# EAGLE library part QUECTEL_L20 (library gps-gsm)
Quectel L20 module by Jozsef Kovacs, RobotSzoft Kft
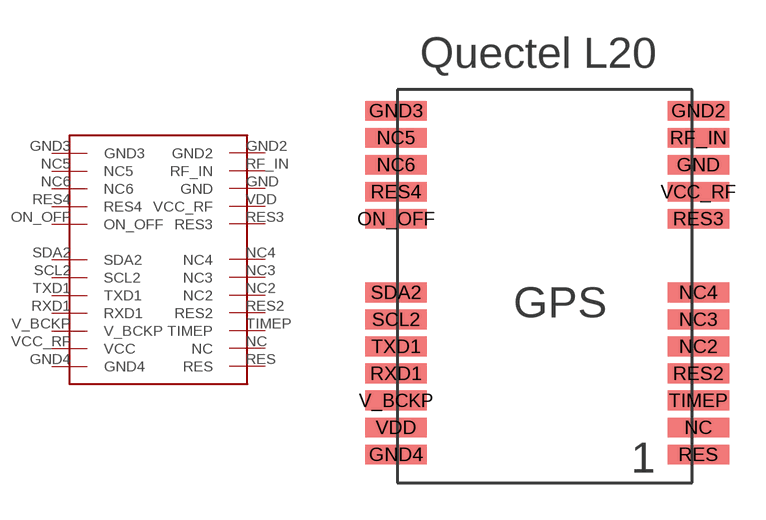
[diagram p16: symbol with the pads of QUECTEL_L20; footprint QUECTEL_L20]

Designator prefix -

## QUECTEL_L20  [QUECTEL_L20]
GND  GND
GND2  GND2
GND3  GND3
GND4  GND4
NC  NC
NC2  NC2
NC3  NC3
NC4  NC4
NC5  NC5
NC6  NC6
ON_OFF  ON_OFF
RES  RES
RES2  RES2
RES3  RES3
RES4  RES4
RF_IN  RF_IN
RXD1  RXD1
SCL2  SCL2
SDA2  SDA2
TIMEP  TIMEP
TXD1  TXD1
V_BCKP  V_BCKP
VCC_RF  VCC
VDD  VCC_RF

## Footprint QUECTEL_L20 (pad centres in mm)
smd 2.5 x 0.8: GND 6.25,4.95; GND2 6.25,7.15; GND3 -6.05,7.15; GND4 -6.05,-6.85; NC 6.25,-5.75; NC2 6.25,-2.45; NC3 6.25,-1.35; NC4 6.25,-0.25; NC5 -6.05,6.05; NC6 -6.05,4.95; ON_OFF -6.05,2.75; RES 6.25,-6.85; RES2 6.25,-3.55; RES3 6.25,2.75; RES4 -6.05,3.85; RF_IN 6.25,6.05; RXD1 -6.05,-3.55; SCL2 -6.05,-1.35; SDA2 -6.05,-0.25; TIMEP 6.25,-4.65; TXD1 -6.05,-2.45; V_BCKP -6.05,-4.65; VCC_RF 6.25,3.85; VDD -6.05,-5.75